# Altium footprint library Inductors.PcbLib: 1 footprints
Each footprint in its own frame and in the unit in brackets; x right, y up, seen from the top. Pads: shape width x height; smd on the part's side, far side on the other; paste and mask are expansions set on the pad; w line width, h text height; cw(c..) or ccw(c..) is an arc to the next point about the centre after c.
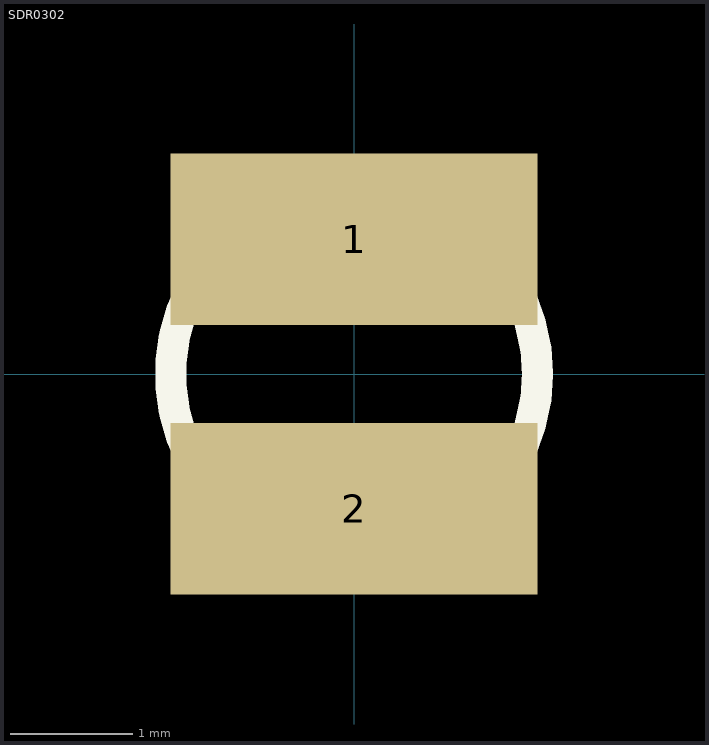
[diagram p0: the footprint, top view; thin cyan lines are the x and y axes]

## SDR0302 [mm] "SDR0302"
pads (2):
  rect 3x1.4 smd: 1(0,1.1) 2(0,-1.1)
Top Overlay:
  circle w0.254: c0,0 r1.5
3D body: height 2.5, standoff 0, extent -1.405,-1.497 1.4,1.497